# Altium footprint library CNC_Control.PcbLib: 2 footprints
Each footprint in its own frame and in the unit in brackets; x right, y up, seen from the top. Pads: shape width x height; smd on the part's side, far side on the other; paste and mask are expansions set on the pad; w line width, h text height; cw(c..) or ccw(c..) is an arc to the next point about the centre after c.
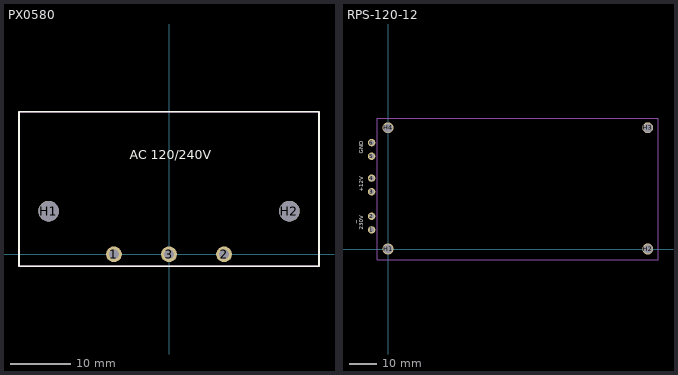
[diagram p0: the footprints below, top view; thin cyan lines are the x and y axes]

## PX0580 [mm] "IEC C14 connector, PC flange rear mount"
height 27.8
pads (5):
  round 2.616 hole 1.6: 1(-9.14,0) 2(9.14,0) 3(0,0)
  round 3.4 hole 3.4 unplated: H1(-20,7.18) H2(20,7.18)
Top Overlay:
  lines w0.254: -24.9,-2 -24.9,23.7 24.9,23.7 24.9,-2 -24.9,-2
  text "AC 120/240V" at -6.477,15.748 h1.52
Mechanical 1:
  lines w0.254: -24.9,-2 -24.9,23.7 24.9,23.7 24.9,-2 -24.9,-2

## RPS-120-12 [mm] "Power Supply, 120w, 12V/10A"
height 30
pads (10):
  round 2.7 hole 1.7: 1(-6,7) 2(-6,12) 3(-6,21) 4(-6,26) 5(-6,34) 6(-6,39)
  round 4 hole 3.3: H1(0,0) H2(95.25,0) H3(95.25,44.45) H4(0,44.45)
Top Overlay:
  text "230V" at -9,7 h1.52
  text "GND" at -9,35 h1.52
  text "+12V" at -9,21 h1.52
  text "~" at -11,9 h1.52
Mechanical 1:
  lines w0.254: -4,-4 -4,48 99,48 99,-4 -4,-4